# Altium footprint library Miscellaneous.PcbLib: 14 footprints
Each footprint in its own frame and in the unit in brackets; x right, y up, seen from the top. Pads: shape width x height; smd on the part's side, far side on the other; paste and mask are expansions set on the pad; w line width, h text height; cw(c..) or ccw(c..) is an arc to the next point about the centre after c.
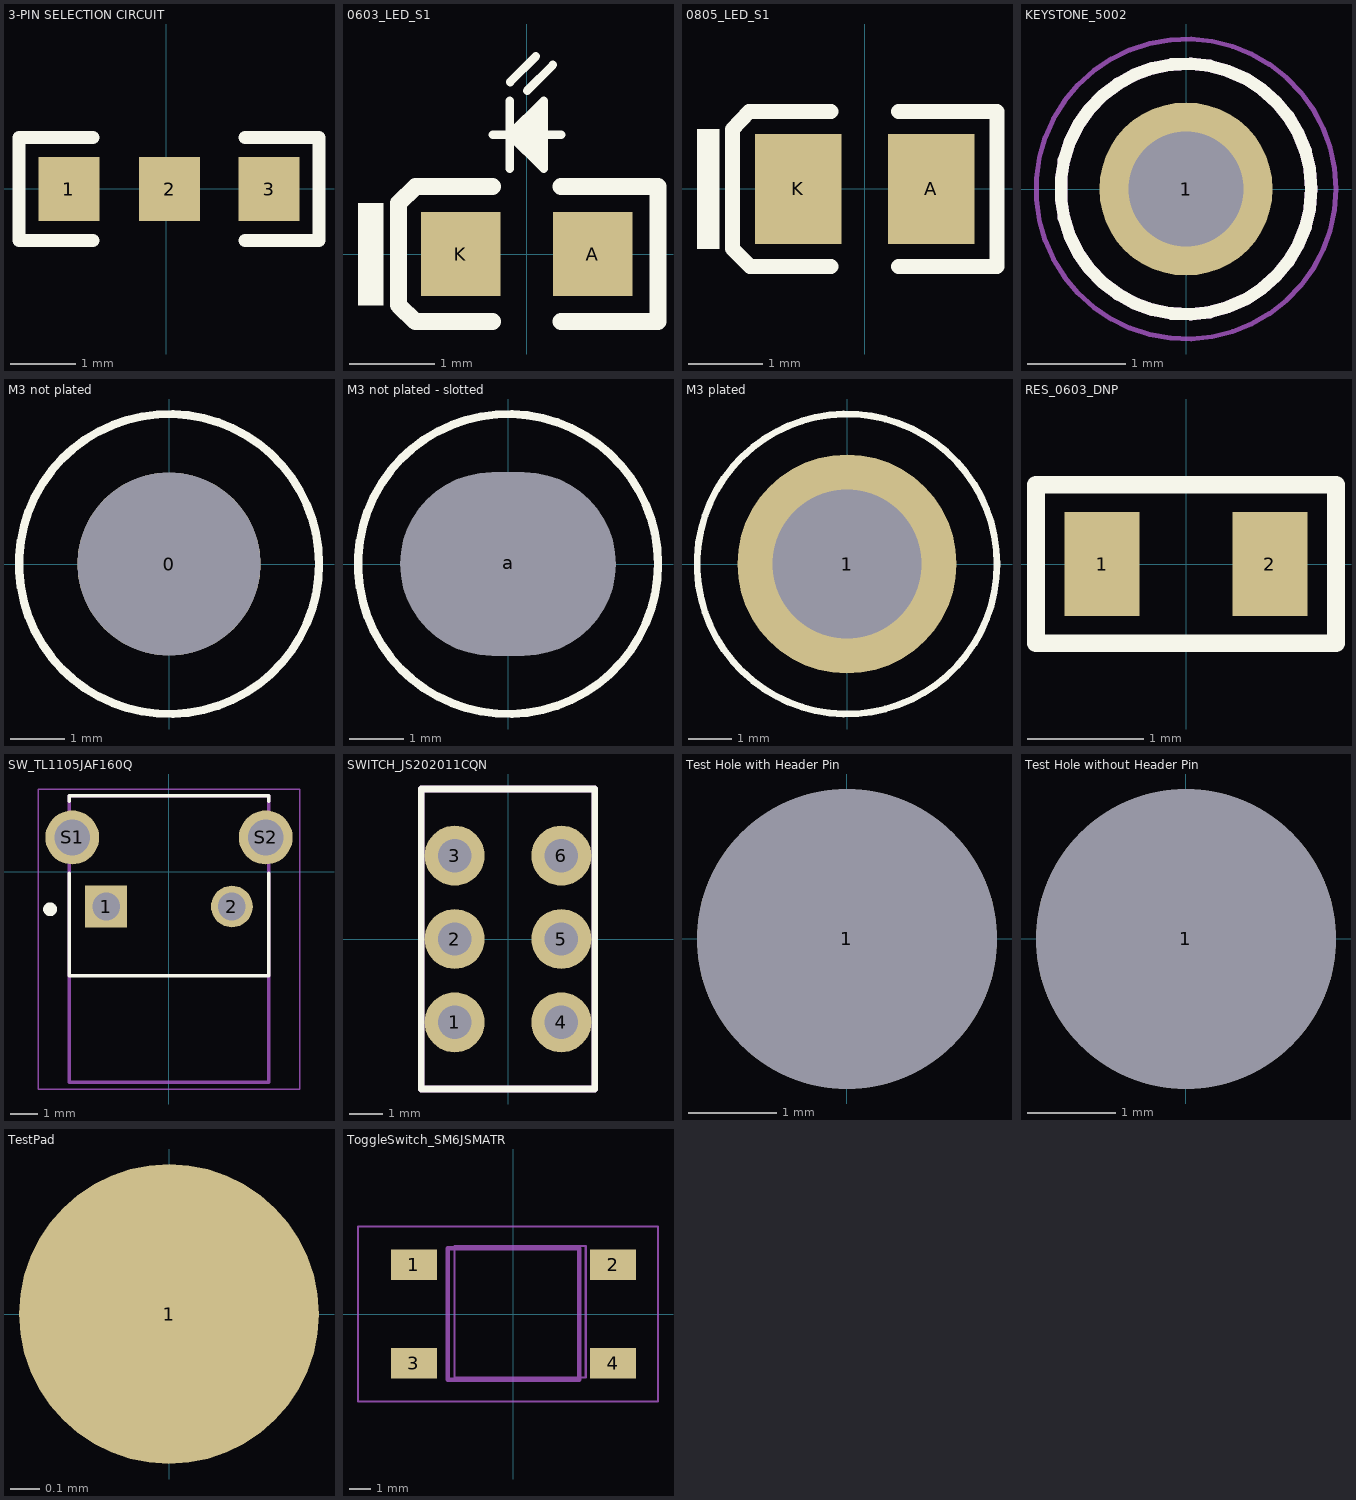
[diagram p0: the footprints below, top view; thin cyan lines are the x and y axes]

## 3-PIN SELECTION CIRCUIT [mm]
pads (3):
  rect 0.93x0.98 smd: 1(-1.493,0) 2(0.047,0) 3(1.571,0)
Top Overlay:
  lines w0.2: -1.123,-0.79 -2.258,-0.79 -2.258,0.79 -1.123,0.79 ; 1.201,-0.79 2.336,-0.79 2.336,0.79 1.201,0.79
3D body: height 0.56, standoff 0, extent -0.024,-0.4 1.676,0.4

## 0603_LED_S1 [mm]
pads (2):
  rect 0.93x0.98 smd: A(0.77,0) K(-0.77,0)
Top Overlay:
  circle w0.152: c0.073,1.27 r0.057
  circle w0.152: c0.057,1.343 r0.057
  rectangle: -1.975,-0.6 -1.675,0.6
  lines w0.1: -0.4,1.397 0.4,1.397 ; -0.2,0.997 -0.2,1.797 ; -0.195,2.014 0.105,2.314 ; -0.156,1.353 0.197,1.706 ; 0.005,1.914 0.305,2.214 ; 0.163,1.143 0.163,1.56 -0.027,1.37 0.2,1.143 ; -0.2,1.397 0.2,0.997 0.2,1.797 -0.2,1.397
  lines w0.2: -0.4,-0.79 -1.3,-0.79 -1.5,-0.597 -1.5,0.597 -1.3,0.79 -0.4,0.79 ; 0.4,-0.79 1.535,-0.79 1.535,0.79 0.4,0.79
3D body: height 0.6, standoff 0, extent -0.8,-0.4 0.8,0.4

## 0805_LED_S1 [mm]
pads (2):
  rect 1.16x1.47 smd: A(0.89,0) K(-0.89,0)
Top Overlay:
  rectangle: -2.245,-0.8 -1.945,0.8
  lines w0.2: -0.45,-1.035 -1.535,-1.035 -1.77,-0.8 -1.77,0.8 -1.55,1.035 -0.45,1.035 ; 0.45,-1.035 1.77,-1.035 1.77,1.035 0.45,1.035
3D body: height 1.1, standoff 0, extent -1.01,-0.625 1.01,0.625

## KEYSTONE_5002 [mm]
pads (1):
  round 1.755 hole 1.17: 1(0,0)
Top Overlay:
  circle w0.127: c0,0 r1.27
3D Top:
  circle w0.127: c0,0 r1.27
Courtyard Top:
  circle w0.05: c0,0 r1.52
3D body: height 4.57, standoff -3.05, extent -1.27,-1.27 1.27,1.27

## M3 not plated [mm]
pads (1):
  round 3.4 hole 3.4 unplated: 0(0,0)
Top Overlay:
  circle w0.152: c0,0 r2.785

## M3 not plated - slotted [mm]
pads (1):
  round 3.4 hole 3.4 slot 4 at 0 deg unplated: a(0,0)
Top Overlay:
  circle w0.152: c0,0 r2.785

## M3 plated [mm]
pads (1):
  round 5 hole 3.4: 1(0,0)
Top Overlay:
  circle w0.152: c0,0 r3.42

## RES_0603_DNP [mm]
pads (2):
  rect 0.65x0.9 smd: 1(-0.725,0) 2(0.725,0)
Top Overlay:
  lines w0.152: -1.295,-0.686 1.295,-0.686 1.295,0.686 -1.295,0.686 -1.295,-0.686

## SW_TL1105JAF160Q [mm]
pads (4):
  rect 1.508x1.508 hole 1: 1(-2.275,-1.25)
  round 1.508 hole 1: 2(2.275,-1.25)
  round 1.95 hole 1.3: S1(-3.5,1.25) S2(3.5,1.25)
Top Overlay:
  circle w0.3: c-4.3,-1.35 r0.1
  lines w0.127: -3.6,-0.05 -3.6,-3.75 3.6,-3.75 3.6,-0.05 ; -3.6,2.55 -3.6,2.75 3.6,2.75 3.6,2.55
3D Top:
  lines w0.127: -3.6,-7.6 3.6,-7.6 3.6,2.75 -3.6,2.75 -3.6,-7.6
Courtyard Top:
  lines w0.05: -4.73,-7.85 4.73,-7.85 4.73,3 -4.73,3 -4.73,-7.85
3D body: height 7.3, standoff -3.7, extent -4.197,-7.64 4.198,2.71

## SWITCH_JS202011CQN [mm]
pads (6):
  round 1.8 hole 1: 1(-1.6,-2.5) 2(-1.6,0) 3(-1.6,2.5) 4(1.6,-2.5) 5(1.6,0) 6(1.6,2.5)
Top Overlay:
  lines w0.203: -2.6,-4.5 2.6,-4.5 2.6,4.5 -2.6,4.5 -2.6,-4.5
3D Top:
  lines w0.203: -2.6,-4.5 2.6,-4.5 2.6,4.5 -2.6,4.5 -2.6,-4.5
3D body: height 4.65, standoff -3.85, extent -1.8,-4.562 1.8,4.438

## Test Hole with Header Pin [mm]
pads (1):
  round 3.4 hole 3.4: 1(0,0)
3D body: height 10.62, standoff -2.92, extent -1.067,-1.168 1.067,1.169

## Test Hole without Header Pin [mm]
pads (1):
  round 3.4 hole 3.4: 1(0,0)

## TestPad [mil]
pads (1):
  round 40 smd: 1(0,0)

## ToggleSwitch_SM6JSMATR [mm]
pads (4):
  rect 2.1x1.4 smd: 1(-4.55,2.25) 2(4.55,2.25) 3(-4.55,-2.25) 4(4.55,-2.25)
Assembly Top:
  lines w0.1: -7.1,-4 6.6,-4 6.6,4 -7.1,4 -7.1,-4
  lines w0.2: -3,-3 3,-3 3,3 -3,3 -3,-3
Mechanical 22:
  lines w0.1: -2.7,-2.9 -2.7,3.1 3.3,3.1 3.3,-2.9 -2.7,-2.9
3D body: height 7.1, standoff 0.03, extent -5,-3 5,3